# Altium schematic symbol library ERJU12F5600U.SchLib: 1 symbol
Pins are listed as number, name and electrical type; pins without a type are passive.

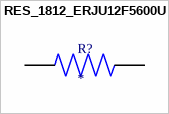
[diagram p0: symbol RES_1812_ERJU12F5600U]

## RES_1812_ERJU12F5600U
designator R?
RES 1812; MP: ERJU12F5600U; Package: None; Value: *; Availability: Unavailable; Price: None
footprint RES_ERJU12F5600U
pins: 1, 2